# Altium schematic symbol library RelayDriver.SchLib: 9 symbols
Pins are listed as number, name and electrical type; pins without a type are passive.

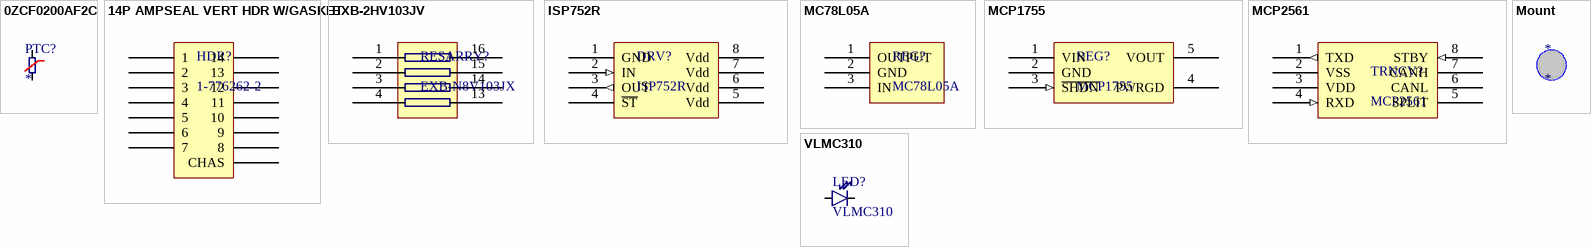
[diagram p0: symbols 0ZCF0200AF2C to VLMC310]

## 0ZCF0200AF2C
designator PTC?
PTC device, 2A hold, 4A trip
footprint 0ZCF0200AF2C
pins: 1, 2

## 14P AMPSEAL VERT HDR W/GASKET
designator HDR?, comment 1-776262-2
14P AMPSEAL VERT HDR W/GASKET
footprint 1-776262-2 (14P AMPSEAL VERT HDR W/GASKET)
pins: 1, 2, 3, 4, 5, 6, 7, 8, 9, 10, 11, 12, 13, 14, CHAS

## EXB-2HV103JV
designator RESARRY?, comment EXB-N8V103JX
Panasonic resistor array 10k
pins: 1, 2, 3, 4, 13, 14, 15, 16

## ISP752R
designator DRV?
Infineon smart power high side switch; Cost: 2.25
footprint SOP127P600X175-8N (SOP, 8-Leads, Body 4.90x3.90mm, Pitch 1.27mm, IPC Medium Density)
pins: 1 GND (power), 2 IN (in), 3 OUT (out), 4 ~{ST} (oc), 5 Vdd (power), 6 Vdd (power), 7 Vdd (power), 8 Vdd (power)

## MC78L05A
designator REG?
Fairchild 3-Terminal 0.1 A Positive Voltage Regulator
footprint SOT89-150P359X170-3N (SOT89, 3-Leads, Body 4.50x2.50mm, Pitch 1.50mm, Lead Span 3.6mm, IPC Medium Density)
pins: 1 OUTPUT, 2 GND (power), 3 IN (power)

## MCP1755
designator REG?
Microchip 300 mA, 16V, High-Performance LDO
footprint SOT95P270X145-5N (SOT23, 5-Leads, Body 2.90x2.70mm, Pitch 0.95mm, IPC Medium Density)
pins: 1 VIN (power), 2 GND (power), 3 ~{SHDN} (in), 4 PWRGD (power), 5 VOUT (power)

## MCP2561
designator TRNCV?
Microchip CAN transceiver
footprint SOP127P600X175-8N (SOP, 8-Leads, Body 4.90x3.90mm, Pitch 1.27mm, IPC Medium Density)
pins: 1 TXD (out), 2 VSS (power), 3 VDD (power), 4 RXD (in), 5 SPLIT, 6 CANL, 7 CANH, 8 STBY (in)

## Mount
designator *
footprint MountHole

## VLMC310
designator LED?
Vishay Low Current SMD LED PLCC-2
footprint VLMC310 (Vishay Low Current SMD LED PLCC-2)
pins: 1 +, 2 -